# Altium footprint library common.PCBLIB: 88 footprints (part 6 of 6)
Each footprint in its own frame and in the unit in brackets; x right, y up, seen from the top. Pads: shape width x height; smd on the part's side, far side on the other; paste and mask are expansions set on the pad; w line width, h text height; cw(c..) or ccw(c..) is an arc to the next point about the centre after c.
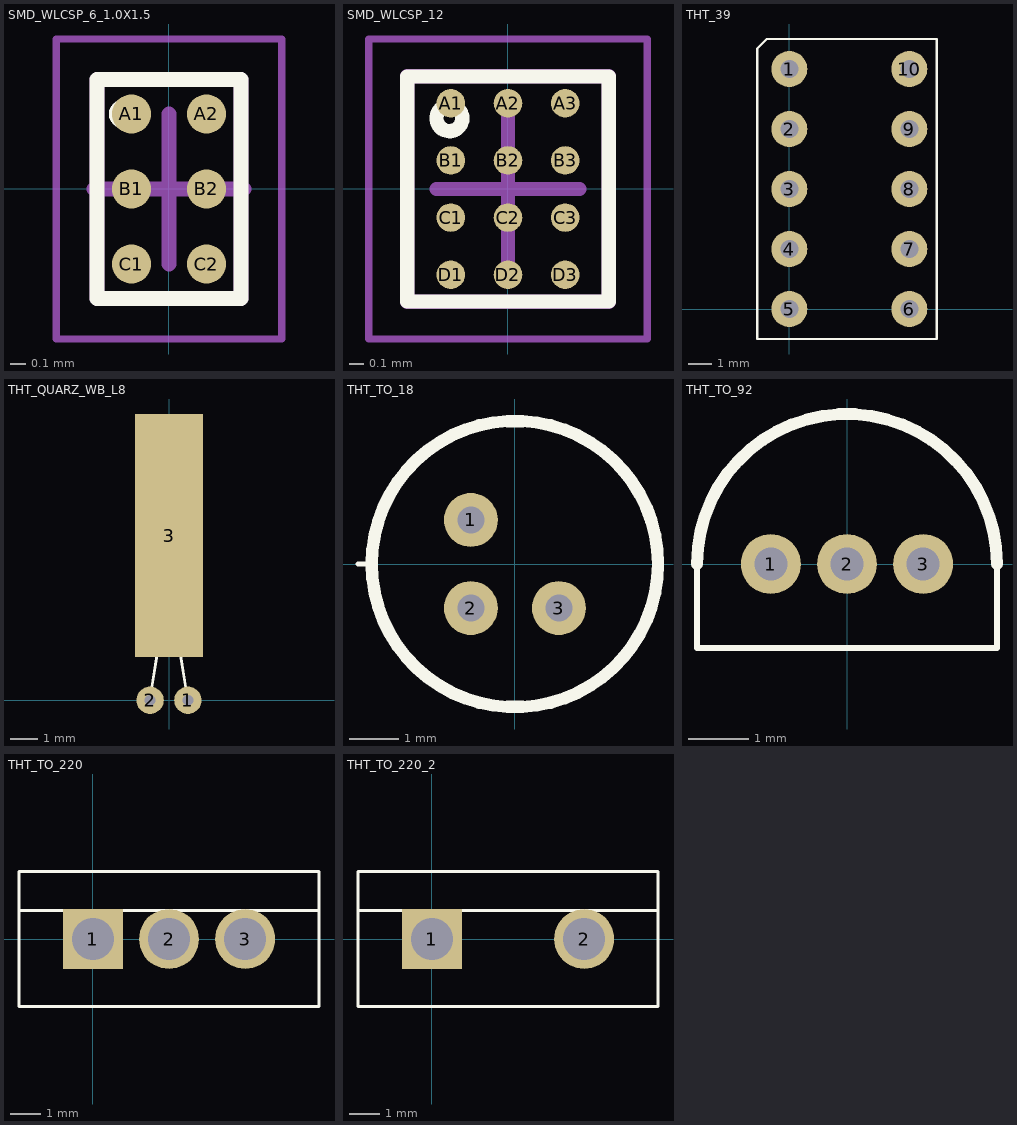
[diagram p5: the footprints below, top view; thin cyan lines are the x and y axes]

## SMD_WLCSP_6_1.0X1.5 [mm] "BGA, 6-Leads, Body 0.96x1.46mmx0.63mm, Pitch 0.50mm"
height 0.63
pads (6):
  round 0.26 smd: A1(-0.25,0.5) A2(0.25,0.5) B1(-0.25,0) B2(0.25,0) C1(-0.25,-0.5) C2(0.25,-0.5)
Top Overlay:
  circle w0.1: c-0.3,0.5 r0.05
  lines w0.1: -0.48,-0.73 0.48,-0.73 0.48,0.73 -0.48,0.73 -0.48,-0.73
Mechanical 13:
  lines w0.1: -0.48,-0.73 -0.48,0.73 0.48,0.73 0.48,-0.73 -0.48,-0.73
Mechanical 15:
  lines w0.05: -0.75,-1 -0.75,1 0.75,1 0.75,-1 -0.75,-1
  lines w0.1: -0.5,0 0.5,0 ; 0,-0.5 0,0.5
3D body: height 0.63, standoff 0.23, extent -0.48,-0.73 0.48,0.73

## SMD_WLCSP_12 [mm] "BGA, 12-Leads, Body 1.41x1.57mmx0.64mm, Pitch 0.40mm"
height 0.64
pads (12):
  round 0.2 smd: A1(-0.4,0.6) A2(0,0.6) A3(0.4,0.6) B1(-0.4,0.2) B2(0,0.2) B3(0.4,0.2) C1(-0.4,-0.2) C2(0,-0.2) C3(0.4,-0.2) D1(-0.4,-0.6) D2(0,-0.6) D3(0.4,-0.6)
Top Overlay:
  circle w0.1: c-0.41,0.495 r0.09
  lines w0.1: -0.705,-0.787 0.705,-0.787 0.705,0.788 -0.705,0.788 -0.705,-0.787
Mechanical 13:
  lines w0.1: -0.705,-0.79 -0.705,0.79 0.705,0.79 0.705,-0.79 -0.705,-0.79
Mechanical 15:
  lines w0.05: -0.975,-1.05 -0.975,1.05 0.975,1.05 0.975,-1.05 -0.975,-1.05
  lines w0.1: -0.5,0 0.5,0 ; 0,-0.5 0,0.5
3D body: height 0.64, standoff 0.17, extent -0.705,-0.79 0.705,0.79

## THT_39 [mil] "THT_39"
height 240.16
pads (10):
  round 60 hole 30: 1(0,400) 2(0,300) 3(0,200) 4(0,100) 5(0,0) 6(200,0) 7(200,100) 8(200,200) 9(200,300) 10(200,400)
Top Overlay:
  lines w3.94: -53.54,-50 245.67,-50 245.67,450 -37.8,450 -53.54,434.25 -53.54,-50

## THT_QUARZ_WB_L8 [mm]
pads (3):
  round 1.016 hole 0.4: 1(0.7,0) 2(-0.7,0)
  rect 2.5x9 smd: 3(0,6.1)
Top Overlay:
  lines w0.1: -0.71,0.007 -0.391,2.007 ; 0.371,2.007 0.69,0.007 ; -1.01,2.007 0.99,2.007 0.99,8.507 0.99,10.325 -1.01,10.325 -1.01,8.507 -1.01,6.507 -1.01,2.007

## THT_TO_18 [mm] "THT_TO_18"
height 5.33
pads (3):
  round 1.1 hole 0.55: 1(-0.898,0.898) 2(-0.898,-0.898) 3(0.898,-0.898)
Top Overlay:
  circle w0.254: c0,0 r2.92
  lines w0.1: -3.2,0 -2.9,0

## THT_TO_92 [mm] "THT_TO_92"
height 5.33
pads (3):
  round 1 hole 0.55: 1(-1.27,0) 2(0,0) 3(1.27,0)
Top Overlay:
  lines w0.1: -2.5,0 -2.5,-1.4 1.8,-1.4 2.5,-1.4 2.5,0
  lines w0.2: -2.5,0 cw(c0,0) 2.5,0

## THT_TO_220 [mm] "THT_TO_220"
height 20
pads (3):
  rect 2x2 hole 1.4: 1(0,0)
  round 2 hole 1.4: 2(2.54,0) 3(5.08,0)
Top Overlay:
  lines w0.1: -2.46,0.95 7.54,0.95 ; -2.46,-2.25 -2.46,2.25 7.54,2.25 7.54,-2.25 -2.46,-2.25

## THT_TO_220_2 [mm] "THT_TO_220_2"
height 20
pads (2):
  rect 2x2 hole 1.4: 1(0,0)
  round 2 hole 1.4: 2(5.08,0)
Top Overlay:
  lines w0.1: -2.46,0.95 7.54,0.95 ; -2.46,-2.25 -2.46,2.25 7.54,2.25 7.54,-2.25 -2.46,-2.25